# EAGLE library part LM4871 (library Audio-Power-amlifier V.2.0)
The LM4871 is a mono bridged audio power amplifier capable of delivering 3W of continuous average power into a 3Ω load with less than 10% THD when powered by a 5V power supply (see Note). To conserve power in portable applications, the LM4871's micropower shutdown mode (IQ = 0.6μA, typ) is activated when VDD is applied to the SHUTDOWN pin. Boomer audio power amplifiers are designed specifically to provide high power, high fidelity audio output. They require few external components and operate on low supply voltages from 2.0V to 5.5V. Since the LM4871 does not require output coupling capacitors, bootstrap capacitors, or snubber networks, it is ideally suited for lowpower portable systems that require minimum volume and weight.
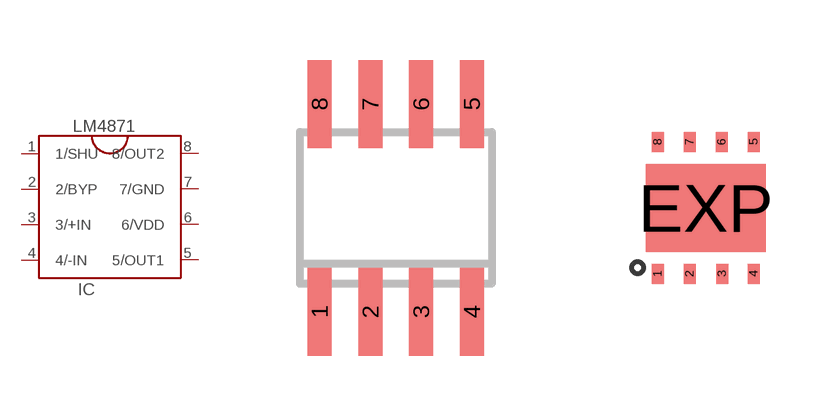
[diagram p193: symbol with the pads of SOIC8; footprints SOIC8, WSON8]

Designator prefix IC

## LM4871LM4871MX/NOPB  [SOIC8]
1  1/SHU
2  2/BYP
3  3/+IN  in
4  4/-IN  in
5  5/OUT1  out
6  6/VDD  pwr
7  7/GND  pwr
8  8/OUT2  out

## LM4871LM4871LDX/NOPB  [WSON8]
Pads as for SOIC8

## LM4871LM4871MMX/NOPB  [VSSOP8]
Pads as for SOIC8

## Footprint SOIC8 (pad centres in mm)
Small Outline IC
smd 0.6 x 2.2: 1 -1.905,-2.6; 2 -0.635,-2.6; 3 0.635,-2.6; 4 1.905,-2.6; 5 1.905,2.6; 6 0.635,2.6; 7 -0.635,2.6; 8 -1.905,2.6

## Footprint WSON8 (pad centres in mm)
LLP4x4 body. http://www.ti.com/sc/docs/package/guide.htm
smd 0.3 x 0.5: 1 -1.2,-1.65; 2 -0.4,-1.65; 3 0.41,-1.65; 4 1.2,-1.65; 5 1.2,1.65; 6 0.4,1.65; 7 -0.4,1.65; 8 -1.2,1.65
smd 3 x 2.2: EXP 0,0

## Footprint VSSOP8 (pad centres in mm)
LGA 4x4 DGK. www.ti.com/audio
smd 0.305 x 0.61: 1 -1.2,-1.65; 2 -0.4,-1.65; 3 0.4,-1.65; 4 1.2,-1.65; 5 1.2,1.65; 6 0.4,1.65; 7 -0.4,1.65; 8 -1.2,1.65
smd 3 x 2.2: EXP 0,0